# Altium footprint library 管子.PcbLib: 24 footprints (part 1 of 2)
Each footprint in its own frame and in the unit in brackets; x right, y up, seen from the top. Pads: shape width x height; smd on the part's side, far side on the other; paste and mask are expansions set on the pad; w line width, h text height; cw(c..) or ccw(c..) is an arc to the next point about the centre after c.
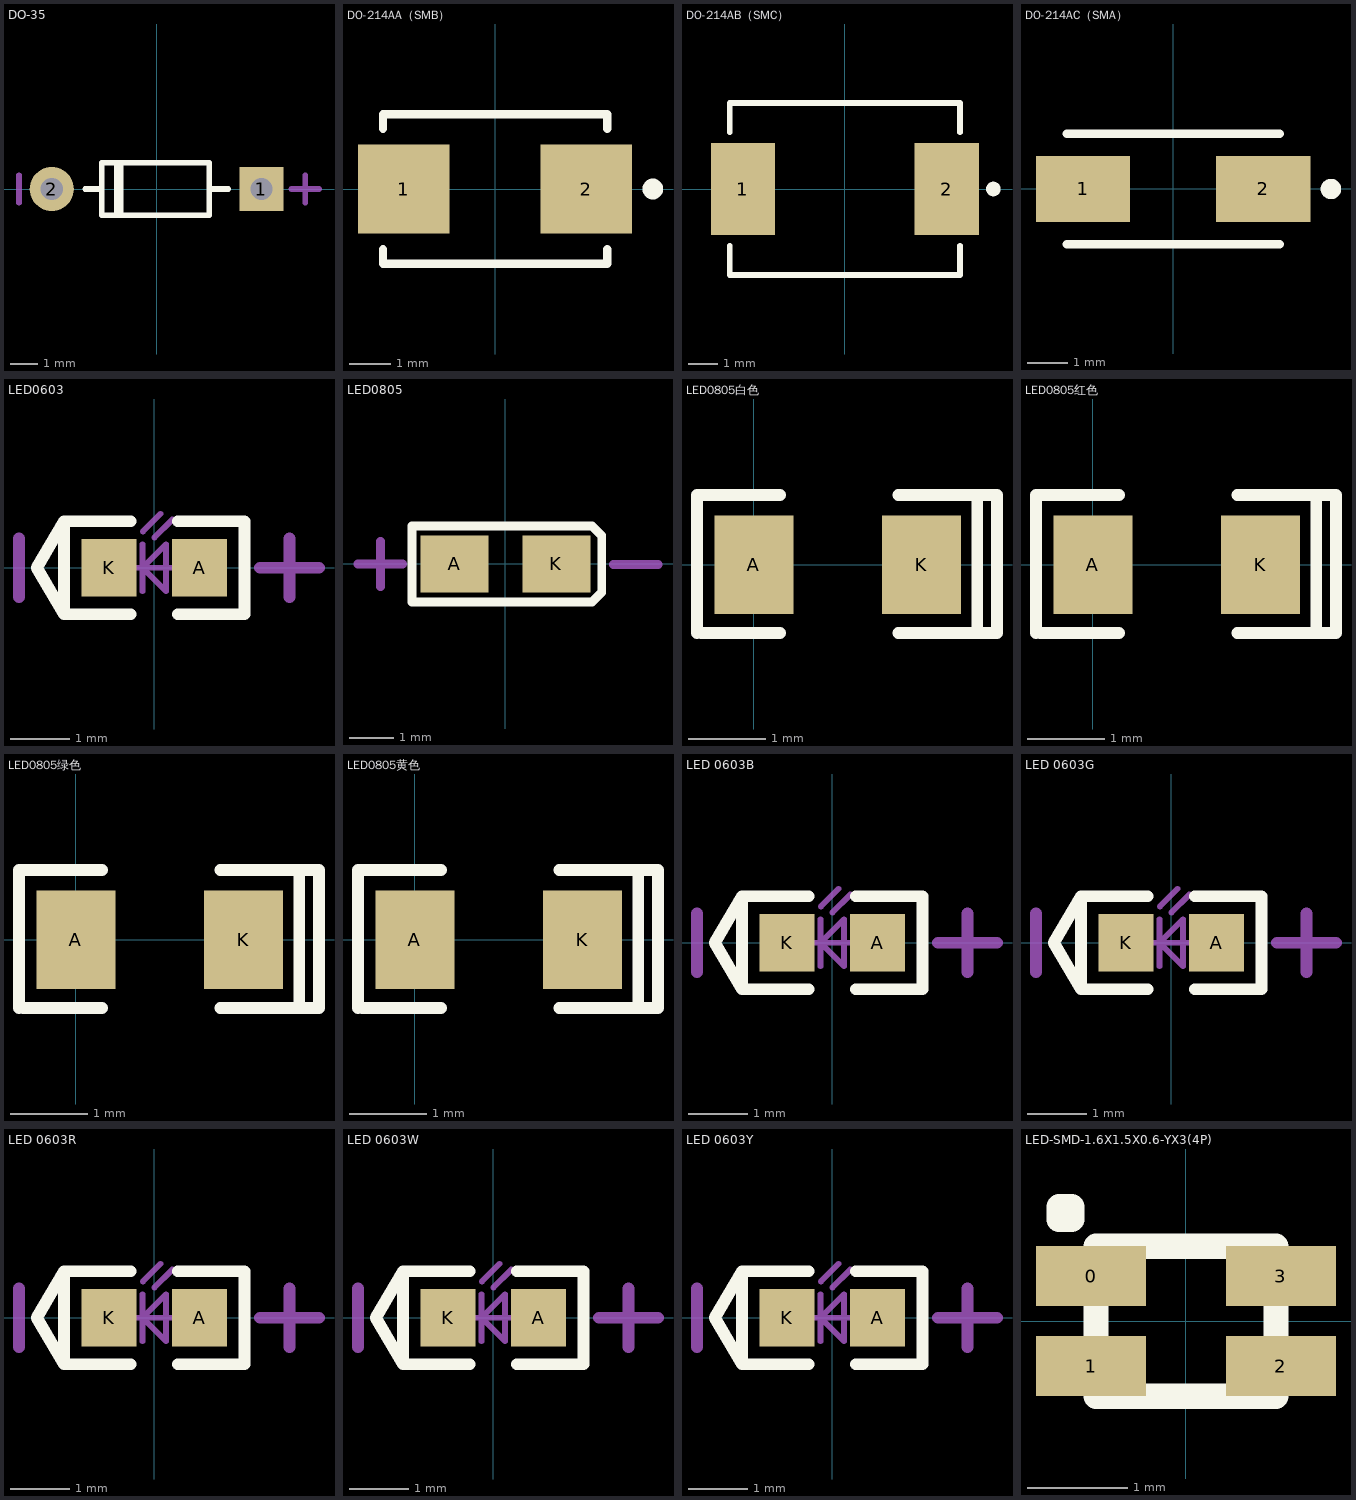
[diagram p0: the footprints below, top view; thin cyan lines are the x and y axes]

## DO-35 [mm]
pads (2):
  rect 1.6x1.6 hole 0.8: 1(3.81,0)
  round 1.6 hole 0.8: 2(-3.81,0)
Top Overlay:
  lines w0.2: -2.6,0 -2.001,0 ; -1.448,-0.95 -1.448,0.95 ; -1.3,-0.95 -1.3,0.95 ; 1.899,-0.95 -2.001,-0.95 -2.001,0.95 1.899,0.95 ; 1.911,-0.95 1.911,0.95 ; 1.911,0 2.6,0
Mechanical 15:
  lines w0.203: -5,-0.5 -5,0.5 ; 4.9,0 5.9,0 ; 5.4,-0.5 5.4,0.5
3D body "DO-35.STEP": height 1.92, standoff -1.9, extent -4.098,-0.888 4.072,0.914

## DO-214AA（SMB） [mm]
pads (2):
  rect 2.2x2.15 smd: 1(-2.2,0) 2(2.2,0)
Top Overlay:
  circle w0.25: c3.8,0 r0.125
  lines w0.2: -2.7,-1.45 -2.7,-1.8 2.7,-1.8 2.7,-1.45 ; -2.7,1.45 -2.7,1.8 2.7,1.8 2.7,1.45
3D body "User Library-DO-214AA SMB.step": height 2.3, standoff 0, extent -2.7,-1.8 2.7,1.8

## DO-214AB（SMC） [mm]
pads (2):
  rect 2.2x3.15 smd: 1(-3.5,0) 2(3.5,0)
Top Overlay:
  circle w0.25: c5.1,0 r0.125
  lines w0.2: -3.95,-1.95 -3.95,-2.95 3.95,-2.95 3.95,-1.95 ; -3.95,1.95 -3.95,2.95 3.95,2.95 3.95,1.95
3D body "User Library-DO-214AB SMC.step": height 2.4, standoff 0.1, extent -3.975,-2.95 3.975,2.95

## DO-214AC（SMA） [mm]
pads (2):
  rect 2.3x1.6 smd: 1(-2.2,0) 2(2.2,0)
Top Overlay:
  circle w0.25: c3.85,0 r0.125
  lines w0.2: -2.6,-1.35 2.6,-1.35 ; -2.6,1.35 2.6,1.35
3D body "User Library-DO-214AC SMA.step": height 2.4, standoff 0, extent -2.6,-1.3 2.6,1.3

## LED0603 [mm]
pads (2):
  rect 0.93x0.98 smd: A(0.77,0) K(-0.77,0)
Top Overlay:
  lines w0.2: -0.4,-0.79 -1.535,-0.79 ; -0.4,0.79 -1.535,0.79 ; 0.4,-0.79 1.535,-0.79 1.535,0.79 0.4,0.79 ; -1.535,-0.79 -1.535,0.79 ; -1.535,-0.79 -2,0 -1.535,0.79
Mechanical 13:
  lines w0.1: -0.4,0 0.4,0 ; -0.2,-0.4 -0.2,0.4 ; -0.195,0.617 0.105,0.917 ; 0.005,0.517 0.305,0.817 ; -0.2,0 0.2,-0.4 0.2,0.4 -0.2,0
Mechanical 15:
  lines w0.203: -2.3,-0.5 -2.3,0.5 ; 1.8,0 2.8,0 ; 2.3,-0.5 2.3,0.5
3D body "User Library-LED_0603_R.STEP": height 0.6, standoff 0, extent -0.8,-0.4 0.8,0.4

## LED0805 [mil]
pads (2):
  rect 60x50 smd: A(-45,0) K(45,0)
Top Overlay:
  lines w7.87: -82.68,-33.46 76.54,-33.46 85,-25 85,25 76.54,33.46 75,33.46 -82.68,33.46 -82.68,-33.46
Mechanical 15:
  lines w8: -130.24,0 -90.87,0 ; -110.55,-19.69 -110.55,19.68 ; 95.31,-0.55 134.68,-0.55
3D body "User Library-LED SMD0805.step": height 33.45, standoff 0.23, extent -40.6,-17.84 40.6,17.84

## LED0805白色 [mil]
pads (2):
  rect 40x50 smd: A(0,0) K(85,0)
Top Overlay:
  lines w5.98: 113.15,-34.61 123.15,-34.61 ; 113.15,35.39 123.15,35.39
  lines w6: -28.86,-34.61 -28.86,35.39 13.15,35.39 ; -26.85,-34.61 13.15,-34.61 ; 73.15,-34.61 113.15,-34.61 113.15,35.39 73.15,35.39 ; 123.15,-34.61 123.15,35.39
3D body "SW3dPS-LED SMD0805.STEP": height 33.45, standoff 0.23, extent -2.07,-17.71 79.13,17.97

## LED0805红色 [mil]
pads (2):
  rect 40x50 smd: A(0,0) K(85,0)
Top Overlay:
  lines w5.98: 113.15,-34.61 123.15,-34.61 ; 113.15,35.39 123.15,35.39
  lines w6: -28.86,-34.61 -28.86,35.39 13.15,35.39 ; -26.85,-34.61 13.15,-34.61 ; 73.15,-34.61 113.15,-34.61 113.15,35.39 73.15,35.39 ; 123.15,-34.61 123.15,35.39
3D body "User Library-led_0805.STEP": height 43.31, standoff 0, extent 3.39,-24.21 82.91,25

## LED0805绿色 [mil]
pads (2):
  rect 40x50 smd: A(0,0) K(85,0)
Top Overlay:
  lines w5.98: 113.15,-34.61 123.15,-34.61 ; 113.15,35.39 123.15,35.39
  lines w6: -28.86,-34.61 -28.86,35.39 13.15,35.39 ; -26.85,-34.61 13.15,-34.61 ; 73.15,-34.61 113.15,-34.61 113.15,35.39 73.15,35.39 ; 123.15,-34.61 123.15,35.39
3D body "User Library-User Library-led_0805 GRE.STEP": height 43.31, standoff 0, extent 3.39,-24.21 82.91,25

## LED0805黄色 [mil]
pads (2):
  rect 40x50 smd: A(0,0) K(85,0)
Top Overlay:
  lines w5.98: 113.15,-34.61 123.15,-34.61 ; 113.15,35.39 123.15,35.39
  lines w6: -28.86,-34.61 -28.86,35.39 13.15,35.39 ; -26.85,-34.61 13.15,-34.61 ; 73.15,-34.61 113.15,-34.61 113.15,35.39 73.15,35.39 ; 123.15,-34.61 123.15,35.39
3D body "User Library-User Library-led_0805 YEL.STEP": height 43.31, standoff 0, extent 3.39,-24.21 82.92,25

## LED 0603B [mm] "蓝色0603LED"
pads (2):
  rect 0.93x0.98 smd: A(0.77,0) K(-0.77,0)
Top Overlay:
  lines w0.2: -0.4,-0.79 -1.535,-0.79 ; -0.4,0.79 -1.535,0.79 ; 0.4,-0.79 1.535,-0.79 1.535,0.79 0.4,0.79 ; -1.535,-0.79 -2,0 -1.535,0.79 ; -1.535,-0.79 -1.535,0.79
Mechanical 13:
  lines w0.1: -0.4,0 0.4,0 ; -0.2,-0.4 -0.2,0.4 ; -0.195,0.617 0.105,0.917 ; 0.005,0.517 0.305,0.817 ; -0.2,0 0.2,0.4 0.2,-0.4 -0.2,0
Mechanical 15:
  lines w0.203: -2.3,-0.5 -2.3,0.5 ; 1.8,0 2.8,0 ; 2.3,-0.5 2.3,0.5
3D body "LED 0603玻璃罩.STEP": height 0.61, standoff 0.21, extent -0.599,-0.401 0.599,0.401
3D body "LED 0603-B.STEP": height 0.47, standoff 0, extent -0.8,-0.401 0.8,0.401

## LED 0603G [mm] "绿色0603LED"
pads (2):
  rect 0.93x0.98 smd: A(0.77,0) K(-0.77,0)
Top Overlay:
  lines w0.2: -0.4,-0.79 -1.535,-0.79 ; -0.4,0.79 -1.535,0.79 ; 0.4,-0.79 1.535,-0.79 1.535,0.79 0.4,0.79 ; -1.535,-0.79 -1.535,0.79 ; -1.535,-0.79 -2,0 -1.535,0.79
Mechanical 13:
  lines w0.1: -0.4,0 0.4,0 ; -0.2,-0.4 -0.2,0.4 ; -0.195,0.617 0.105,0.917 ; 0.005,0.517 0.305,0.817 ; -0.2,0 0.2,-0.4 0.2,0.4 -0.2,0
Mechanical 15:
  lines w0.203: -2.3,-0.5 -2.3,0.5 ; 1.8,0 2.8,0 ; 2.3,-0.5 2.3,0.5
3D body "LED 0603-G.STEP": height 0.47, standoff 0, extent -0.8,-0.401 0.8,0.401
3D body "LED 0603玻璃罩.STEP": height 0.61, standoff 0.21, extent -0.599,-0.401 0.599,0.401

## LED 0603R [mm] "红色0603LED"
pads (2):
  rect 0.93x0.98 smd: A(0.77,0) K(-0.77,0)
Top Overlay:
  lines w0.2: -0.4,-0.79 -1.535,-0.79 ; -0.4,0.79 -1.535,0.79 ; 0.4,-0.79 1.535,-0.79 1.535,0.79 0.4,0.79 ; -1.535,-0.79 -2,0 -1.535,0.79 ; -1.535,-0.79 -1.535,0.79
Mechanical 13:
  lines w0.1: -0.4,0 0.4,0 ; -0.2,-0.4 -0.2,0.4 ; -0.195,0.617 0.105,0.917 ; 0.005,0.517 0.305,0.817 ; -0.2,0 0.2,0.4 0.2,-0.4 -0.2,0
Mechanical 15:
  lines w0.203: -2.3,-0.5 -2.3,0.5 ; 1.8,0 2.8,0 ; 2.3,-0.5 2.3,0.5
3D body "LED 0603-R.STEP": height 0.47, standoff 0, extent -0.8,-0.401 0.8,0.401
3D body "LED 0603玻璃罩.STEP": height 0.61, standoff 0.21, extent -0.599,-0.401 0.599,0.401

## LED 0603W [mm] "白色0603LED"
pads (2):
  rect 0.93x0.98 smd: A(0.77,0) K(-0.77,0)
Top Overlay:
  lines w0.2: -0.4,-0.79 -1.535,-0.79 ; -0.4,0.79 -1.535,0.79 ; 0.4,-0.79 1.535,-0.79 1.535,0.79 0.4,0.79 ; -1.535,-0.79 -2,0 -1.535,0.79 ; -1.535,-0.79 -1.535,0.79
Mechanical 13:
  lines w0.1: -0.4,0 0.4,0 ; -0.2,-0.4 -0.2,0.4 ; -0.195,0.617 0.105,0.917 ; 0.005,0.517 0.305,0.817 ; -0.2,0 0.2,0.4 0.2,-0.4 -0.2,0
Mechanical 15:
  lines w0.203: -2.3,-0.5 -2.3,0.5 ; 1.8,0 2.8,0 ; 2.3,-0.5 2.3,0.5
3D body "LED 0603玻璃罩.STEP": height 0.61, standoff 0.21, extent -0.599,-0.401 0.599,0.401
3D body "LED 0603-W.STEP": height 0.47, standoff 0, extent -0.8,-0.401 0.8,0.401

## LED 0603Y [mm] "黄色0603LED"
pads (2):
  rect 0.93x0.98 smd: A(0.77,0) K(-0.77,0)
Top Overlay:
  lines w0.2: -0.4,-0.79 -1.535,-0.79 ; -0.4,0.79 -1.535,0.79 ; 0.4,-0.79 1.535,-0.79 1.535,0.79 0.4,0.79 ; -1.535,-0.79 -2,0 -1.535,0.79 ; -1.535,-0.79 -1.535,0.79
Mechanical 13:
  lines w0.1: -0.4,0 0.4,0 ; -0.2,-0.4 -0.2,0.4 ; -0.195,0.617 0.105,0.917 ; 0.005,0.517 0.305,0.817 ; -0.2,0 0.2,0.4 0.2,-0.4 -0.2,0
Mechanical 15:
  lines w0.203: -2.3,-0.5 -2.3,0.5 ; 1.8,0 2.8,0 ; 2.3,-0.5 2.3,0.5
3D body "LED 0603玻璃罩.STEP": height 0.61, standoff 0.21, extent -0.599,-0.401 0.599,0.401
3D body "LED 0603-Y.STEP": height 0.47, standoff 0, extent -0.8,-0.408 0.8,0.395

## LED-SMD-1.6X1.5X0.6-YX3(4P) [mm]
pads (4):
  rect 1.1x0.6 smd: 0(-0.95,0.45) 1(-0.95,-0.45) 2(0.95,-0.45) 3(0.95,0.45)
Top Overlay:
  lines w0.254: -1.27,1.016 -1.143,1.016 -1.143,1.143 -1.27,1.143 -1.27,1.016 ; -0.9,-0.75 0.9,-0.75 0.9,0.75 -0.9,0.75 -0.9,-0.75
3D body "User Library-User Library-led_0805 GRE.STEP": height 1.1, standoff 0, extent -1.057,-0.615 0.963,0.635